# Altium schematic symbol library LM7705MM.SchLib: 2 symbols
Pins are listed as number, name and electrical type; pins without a type are passive.

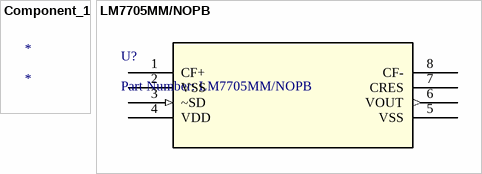
[diagram p0: symbols Component_1 to LM7705MM/NOPB]

## Component_1
designator *

## LM7705MM/NOPB
designator U?, comment Part Number: LM7705MM/NOPB
No Description Available; Vendor: Texas Instruments; Built_By: EMA_UL_Team; Manufacturer_Part_Number: LM7705MM/NOPB; Copyright: Copyright (C) 2018 Accelerated Designs. All rights reserved; RefDes: RefDes; Type: DEV; Value: Value
footprint MUA08A
pins: 1 CF+, 2 VSS (power), 3 ~SD (in), 4 VDD (power), 5 VSS (power), 6 VOUT (out), 7 CRES, 8 CF-